# Altium footprint library PRJ_LIB_LTC2983_Card.PcbLib: 28 footprints (part 1 of 2)
Each footprint in its own frame and in the unit in brackets; x right, y up, seen from the top. Pads: shape width x height; smd on the part's side, far side on the other; paste and mask are expansions set on the pad; w line width, h text height; cw(c..) or ccw(c..) is an arc to the next point about the centre after c.
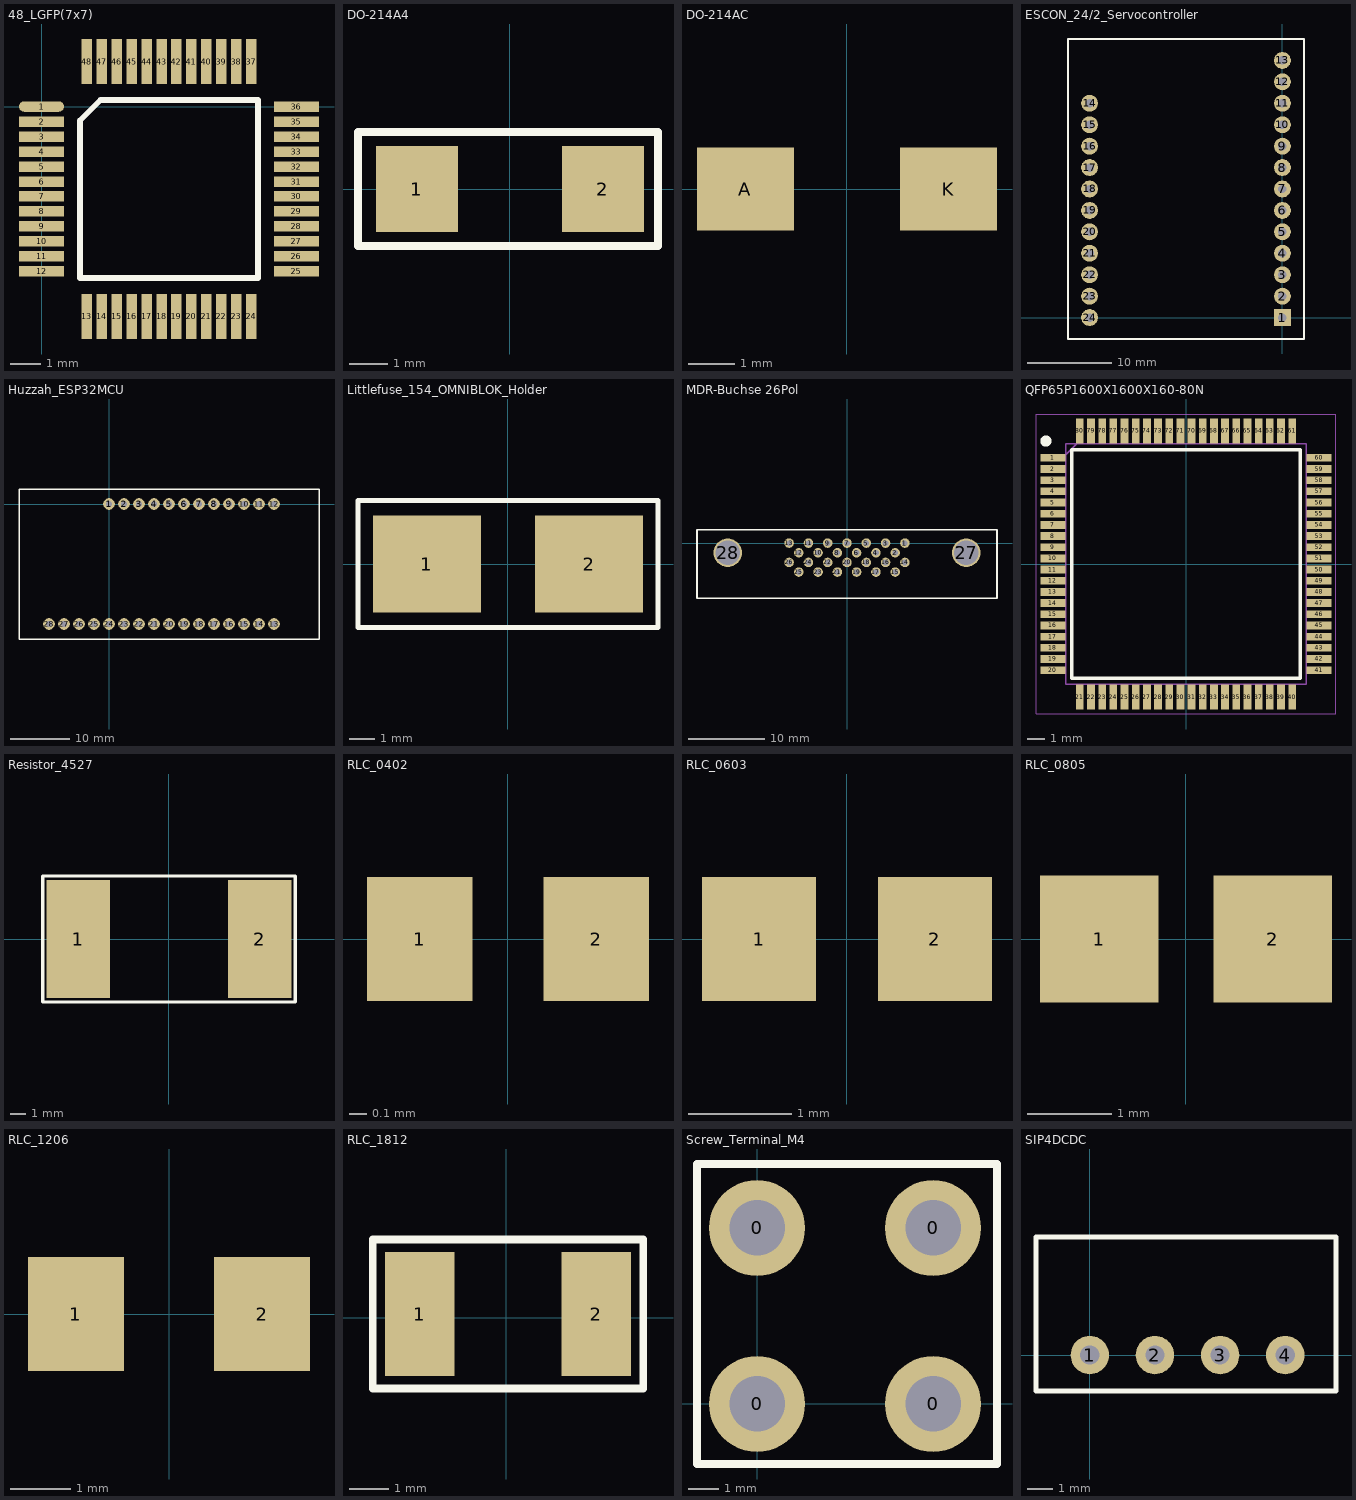
[diagram p0: the footprints below, top view; thin cyan lines are the x and y axes]

## 48_LGFP(7x7) [mm]
pads (48):
  oval 1.5x0.35 smd: 1(0,0)
  rect 1.5x0.35 smd: 2(0,-0.5) 3(0,-1) 4(0,-1.5) 5(0,-2) 6(0,-2.5) 7(0,-3) 8(0,-3.5) 9(0,-4) 10(0,-4.5) 11(0,-5) 12(0,-5.5) 25(8.5,-5.5) 26(8.5,-5) 27(8.5,-4.5) 28(8.5,-4) 29(8.5,-3.5) 30(8.5,-3) 31(8.5,-2.5) 32(8.5,-2) 33(8.5,-1.5) 34(8.5,-1) 35(8.5,-0.5) 36(8.5,0)
  rect 0.35x1.5 smd: 13(1.5,-7) 14(2,-7) 15(2.5,-7) 16(3,-7) 17(3.5,-7) 18(4,-7) 19(4.5,-7) 20(5,-7) 21(5.5,-7) 22(6,-7) 23(6.5,-7) 24(7,-7) 37(7,1.5) 38(6.5,1.5) 39(6,1.5) 40(5.5,1.5) 41(5,1.5) 42(4.5,1.5) 43(4,1.5) 44(3.5,1.5) 45(3,1.5) 46(2.5,1.5) 47(2,1.5) 48(1.5,1.5)
Top Overlay:
  lines w0.2: 1.285,-5.715 1.285,-0.465 1.965,0.215 7.215,0.215 7.215,-5.715 1.285,-5.715
3D body: height 0.5, standoff 0, extent 7.75,-5.6 8.5,-5.4
3D body: height 0.5, standoff 0, extent 7.75,-5.1 8.5,-4.9
3D body: height 0.5, standoff 0, extent 7.75,-4.6 8.5,-4.4
3D body: height 0.5, standoff 0, extent 7.75,-4.1 8.5,-3.9
3D body: height 0.5, standoff 0, extent 7.75,-3.6 8.5,-3.4
3D body: height 0.5, standoff 0, extent 7.75,-3.1 8.5,-2.9
3D body: height 0.5, standoff 0, extent 7.75,-2.6 8.5,-2.4
3D body: height 0.5, standoff 0, extent 7.75,-2.1 8.5,-1.9
3D body: height 0.5, standoff 0, extent 7.75,-1.6 8.5,-1.4
3D body: height 0.5, standoff 0, extent 7.75,-1.1 8.5,-0.9
3D body: height 0.5, standoff 0, extent 7.75,-0.6 8.5,-0.4
3D body: height 0.5, standoff 0, extent 7.75,-0.1 8.5,0.1
3D body: height 0.5, standoff 0, extent 1.4,-7 1.6,-6.25
3D body: height 0.5, standoff 0, extent 1.9,-7 2.1,-6.25
3D body: height 0.5, standoff 0, extent 2.4,-7 2.6,-6.25
3D body: height 0.5, standoff 0, extent 2.9,-7 3.1,-6.25
3D body: height 0.5, standoff 0, extent 3.4,-7 3.6,-6.25
3D body: height 0.5, standoff 0, extent 3.9,-7 4.1,-6.25
3D body: height 0.5, standoff 0, extent 4.4,-7 4.6,-6.25
3D body: height 0.5, standoff 0, extent 4.9,-7 5.1,-6.25
3D body: height 0.5, standoff 0, extent 5.4,-7 5.6,-6.25
3D body: height 0.5, standoff 0, extent 5.9,-7 6.1,-6.25
3D body: height 0.5, standoff 0, extent 6.4,-7 6.6,-6.25
3D body: height 0.5, standoff 0, extent 6.9,-7 7.1,-6.25
3D body: height 0.5, standoff 0, extent 0,-0.1 0.75,0.1
3D body: height 0.5, standoff 0, extent 0,-0.6 0.75,-0.4
3D body: height 0.5, standoff 0, extent 0,-1.1 0.75,-0.9
3D body: height 0.5, standoff 0, extent 0,-1.6 0.75,-1.4
3D body: height 0.5, standoff 0, extent 0,-2.1 0.75,-1.9
3D body: height 0.5, standoff 0, extent 0,-2.6 0.75,-2.4
3D body: height 0.5, standoff 0, extent 0,-3.1 0.75,-2.9
3D body: height 0.5, standoff 0, extent 0,-3.6 0.75,-3.4
3D body: height 0.5, standoff 0, extent 0,-4.1 0.75,-3.9
3D body: height 0.5, standoff 0, extent 0,-4.6 0.75,-4.4
3D body: height 0.5, standoff 0, extent 0,-5.1 0.75,-4.9
3D body: height 0.5, standoff 0, extent 0,-5.6 0.75,-5.4
3D body: height 0.5, standoff 0, extent 6.9,0.75 7.1,1.5
3D body: height 0.5, standoff 0, extent 6.4,0.75 6.6,1.5
3D body: height 0.5, standoff 0, extent 5.9,0.75 6.1,1.5
3D body: height 0.5, standoff 0, extent 5.4,0.75 5.6,1.5
3D body: height 0.5, standoff 0, extent 4.9,0.75 5.1,1.5
3D body: height 0.5, standoff 0, extent 4.4,0.75 4.6,1.5
3D body: height 0.5, standoff 0, extent 3.9,0.75 4.1,1.5
3D body: height 0.5, standoff 0, extent 3.4,0.75 3.6,1.5
3D body: height 0.5, standoff 0, extent 2.9,0.75 3.1,1.5
3D body: height 0.5, standoff 0, extent 2.4,0.75 2.6,1.5
3D body: height 0.5, standoff 0, extent 1.9,0.75 2.1,1.5
3D body: height 0.5, standoff 0, extent 1.4,0.75 1.6,1.5
3D body: height 1.5, standoff 0, extent 0.75,-6.25 7.75,0.75

## DO-214A4 [mm]
pads (2):
  rect 2.16x2.26 smd: 1(-2.45,0) 2(2.45,0)
Top Overlay:
  lines w0.2: -4,-1.5 -4,-0.3 -4,1.5 3.9,1.5 3.9,-1.5 -4,-1.5
3D body: height 2, standoff 0, extent -2.7,-1.3 2.7,1.3

## DO-214AC [mm]
pads (2):
  rect 2.1x1.8 smd: A(-2.2,0) K(2.2,0)
3D body: height 0.45, standoff 0, extent -2.3,-0.8 2.3,0.8

## ESCON_24/2_Servocontroller [mm]
pads (24):
  rect 2x2 hole 1: 1(0,0)
  round 2 hole 1: 2(0,2.54) 3(0,5.08) 4(0,7.62) 5(0,10.16) 6(0,12.7) 7(0,15.24) 8(0,17.78) 9(0,20.32) 10(0,22.86) 11(0,25.4) 12(0,27.94) 13(0,30.48) 14(-22.86,25.4) 15(-22.86,22.86) 16(-22.86,20.32) 17(-22.86,17.78) 18(-22.86,15.24) 19(-22.86,12.7) 20(-22.86,10.16) 21(-22.86,7.62) 22(-22.86,5.08) 23(-22.86,2.54) 24(-22.86,0)
Top Overlay:
  lines w0.25: -25.4,-2.54 -25.4,33.02 2.54,33.02 2.54,-2.54 -25.4,-2.54
3D body: height 8.5, standoff 0, extent -24.13,-1.27 -21.59,26.67
3D body: height 8.5, standoff 0, extent -1.237,-0.729 1.303,32.291
3D body: height 10.5, standoff 8.5, extent -25.4,-2.54 2.54,33.02

## Huzzah_ESP32MCU [mm]
pads (28):
  round 2 hole 1: 1(0,0) 2(2.54,0) 3(5.08,0) 4(7.62,0) 5(10.16,0) 6(12.7,0) 7(15.24,0) 8(17.78,0) 9(20.32,0) 10(22.86,0) 11(25.4,0) 12(27.94,0) 13(27.94,-20.32) 14(25.4,-20.32) 15(22.86,-20.32) 16(20.32,-20.32) 17(17.78,-20.32) 18(15.24,-20.32) 19(12.7,-20.32) 20(10.16,-20.32) 21(7.62,-20.32) 22(5.08,-20.32) 23(2.54,-20.32) 24(0,-20.32) 25(-2.54,-20.32) 26(-5.08,-20.32) 27(-7.62,-20.32) 28(-10.16,-20.32)
Top Overlay:
  lines w0.25: -15.24,-22.86 35.56,-22.86 35.56,2.54 -15.24,2.54 -15.24,-22.86
3D body: height 10.5, standoff 8.5, extent -15.24,-22.86 35.56,2.54
3D body: height 8.5, standoff 0, extent -11.43,-21.59 29.21,-19.05
3D body: height 8.5, standoff 0, extent -1.27,-1.27 29.21,1.27

## Littlefuse_154_OMNIBLOK_Holder [mm]
pads (2):
  rect 4.24x3.81 smd: 1(-3.19,0) 2(3.19,0)
Top Overlay:
  lines w0.2: -5.905,-2.5 5.905,-2.5 5.905,2.5 -5.905,2.5 -5.905,0 -5.905,-2.5
3D body: height 4, standoff 0, extent -3.2,-2.2 3.3,2.2

## MDR-Buchse 26Pol [mm]
pads (28):
  round 1.25 hole 0.75: 1(7.62,0) 2(6.35,-1.27) 3(5.08,0) 4(3.81,-1.27) 5(2.54,0) 6(1.27,-1.27) 7(0,0) 8(-1.27,-1.27) 9(-2.54,0) 10(-3.81,-1.27) 11(-5.08,0) 12(-6.35,-1.27) 13(-7.62,0) 14(7.62,-2.54) 15(6.35,-3.81) 16(5.08,-2.54) 17(3.81,-3.81) 18(2.54,-2.54) 19(1.27,-3.81) 20(0,-2.54) 21(-1.27,-3.81) 22(-2.54,-2.54) 23(-3.81,-3.81) 24(-5.08,-2.54) 25(-6.35,-3.81) 26(-7.62,-2.54)
  round 3.75 hole 3.2: 27(15.71,-1.27) 28(-15.71,-1.27)
Top Overlay:
  lines w0.2: -19.75,-7.25 19.75,-7.25 19.75,-6.5 19.75,-1.25 19.75,1.75 17.75,1.75 -19.75,1.75 -19.75,-1.25 -19.75,-7.25
3D body: height 10, standoff 0, extent -19.75,-7.25 19.75,1.75

## QFP65P1600X1600X160-80N [mm]
pads (80):
  rect 1.475x0.45 smd: 1(-7.738,6.175) 2(-7.738,5.525) 3(-7.738,4.875) 4(-7.738,4.225) 5(-7.738,3.575) 6(-7.738,2.925) 7(-7.738,2.275) 8(-7.738,1.625) 9(-7.738,0.975) 10(-7.738,0.325) 11(-7.738,-0.325) 12(-7.738,-0.975) 13(-7.738,-1.625) 14(-7.738,-2.275) 15(-7.738,-2.925) 16(-7.738,-3.575) 17(-7.738,-4.225) 18(-7.738,-4.875) 19(-7.738,-5.525) 20(-7.738,-6.175) 41(7.738,-6.175) 42(7.738,-5.525) 43(7.738,-4.875) 44(7.738,-4.225) 45(7.738,-3.575) 46(7.738,-2.925) 47(7.738,-2.275) 48(7.738,-1.625) 49(7.738,-0.975) 50(7.738,-0.325) 51(7.738,0.325) 52(7.738,0.975) 53(7.738,1.625) 54(7.738,2.275) 55(7.738,2.925) 56(7.738,3.575) 57(7.738,4.225) 58(7.738,4.875) 59(7.738,5.525) 60(7.738,6.175)
  rect 0.45x1.475 smd: 21(-6.175,-7.738) 22(-5.525,-7.738) 23(-4.875,-7.738) 24(-4.225,-7.738) 25(-3.575,-7.738) 26(-2.925,-7.738) 27(-2.275,-7.738) 28(-1.625,-7.738) 29(-0.975,-7.738) 30(-0.325,-7.738) 31(0.325,-7.738) 32(0.975,-7.738) 33(1.625,-7.738) 34(2.275,-7.738) 35(2.925,-7.738) 36(3.575,-7.738) 37(4.225,-7.738) 38(4.875,-7.738) 39(5.525,-7.738) 40(6.175,-7.738) 61(6.175,7.738) 62(5.525,7.738) 63(4.875,7.738) 64(4.225,7.738) 65(3.575,7.738) 66(2.925,7.738) 67(2.275,7.738) 68(1.625,7.738) 69(0.975,7.738) 70(0.325,7.738) 71(-0.325,7.738) 72(-0.975,7.738) 73(-1.625,7.738) 74(-2.275,7.738) 75(-2.925,7.738) 76(-3.575,7.738) 77(-4.225,7.738) 78(-4.875,7.738) 79(-5.525,7.738) 80(-6.175,7.738)
Top Overlay:
  circle w0.325: c-8.15,7.15 r0.162
  lines w0.2: -6.65,-6.65 -6.65,6.65 6.65,6.65 6.65,-6.65 -6.65,-6.65
Mechanical 13:
  lines w0.1: -7,6.35 -6.35,7 ; -7,-7 -7,7 7,7 7,-7 -7,-7
Mechanical 15:
  lines w0.05: -8.725,-8.725 -8.725,8.725 8.725,8.725 8.725,-8.725 -8.725,-8.725
3D body "AD7616BSTZ.stp": height 1.6, standoff 0, extent -8,-8 8,8

## Resistor_4527 [mm]
pads (2):
  rect 4x7.5 smd: 1(-5.75,0) 2(5.75,0)
Top Overlay:
  lines w0.2: -8,-4 8,-4 8,4 -8,4 -8,1.25 -8,-4
3D body: height 2.5, standoff 0, extent -6.5,0 -6.5,0
3D body: height 2.5, standoff 0, extent -5.75,-3.5 5.75,3.5

## RLC_0402 [mm]
pads (2):
  rect 0.6x0.7 smd: 1(-0.5,0) 2(0.5,0)
3D body: height 0.25, standoff 0, extent -0.5,-0.325 0.5,0.325

## RLC_0603 [mm]
pads (2):
  rect 1.1x1.2 smd: 1(-0.85,0) 2(0.85,0)
3D body: height 0.35, standoff 0, extent -0.85,-0.575 0.85,0.575

## RLC_0805 [mm]
pads (2):
  rect 1.4x1.5 smd: 1(-1.025,0) 2(1.025,0)
3D body: height 0.45, standoff 0, extent -1.025,-0.725 1.025,0.725

## RLC_1206 [mm]
pads (2):
  rect 1.6x1.9 smd: 1(-1.55,0) 2(1.55,0)
3D body: height 0.55, standoff 0, extent -1.6,-0.9 1.6,0.9

## RLC_1812 [mm]
pads (2):
  rect 1.78x3.15 smd: 1(-2.2,0.1) 2(2.3,0.1)
Top Overlay:
  lines w0.2: -3.4,-1.8 3.5,-1.8 3.5,2 -3.4,2 -3.4,-1.8
3D body: height 1, standoff 0, extent -2.2,-1.4 2.3,1.6

## Screw_Terminal_M4 [mm]
pads (4):
  round 3.2 hole 1.85: 0(0,0) 0(0,5.87) 0(5.87,0) 0(5.87,5.87)
Top Overlay:
  lines w0.254: -2,-2 -2,8 8,8 8,-2 -2,-2
3D body: height 8, standoff 0, extent -2,-2 8,8

## SIP4DCDC [mm]
pads (4):
  round 1.5 hole 0.75: 1(0,0) 2(2.54,0) 3(5.08,0) 4(7.62,0)
Top Overlay:
  lines w0.2: -2.1,-1.4 -2.1,0 -2.1,0.7 -2.1,4.6 9.6,4.6 9.6,-1.4 -2.1,-1.4
3D body: height 10, standoff 0, extent -2.1,-1.4 9.6,4.6
3D body: height 0, standoff 0, extent -0.248,-0.249 0.25,0.25
3D body: height 0, standoff 0, extent 2.292,-0.249 2.79,0.25
3D body: height 0, standoff 0, extent 4.832,-0.249 5.33,0.25
3D body: height 0, standoff 0, extent 7.372,-0.249 7.87,0.25